# Altium schematic symbol library XIAO-ESP32-C5.SchLib: 1 symbol
Pins are listed as number, name and electrical type; pins without a type are passive.

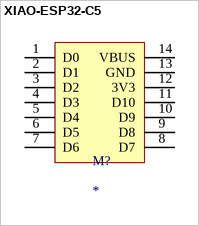
[diagram p0: symbol XIAO-ESP32-C5]

## XIAO-ESP32-C5
designator M?
pins: 1 D0 (power), 2 D1 (power), 3 D2 (power), 4 D3 (power), 5 D4 (power), 6 D5 (power), 7 D6 (power), 8 D7 (power), 9 D8 (power), 10 D9 (power), 11 D10 (power), 12 3V3 (power), 13 GND (power), 14 VBUS (power)